# Altium footprint library DIODE.PcbLib: 1 footprints
Each footprint in its own frame and in the unit in brackets; x right, y up, seen from the top. Pads: shape width x height; smd on the part's side, far side on the other; paste and mask are expansions set on the pad; w line width, h text height; cw(c..) or ccw(c..) is an arc to the next point about the centre after c.
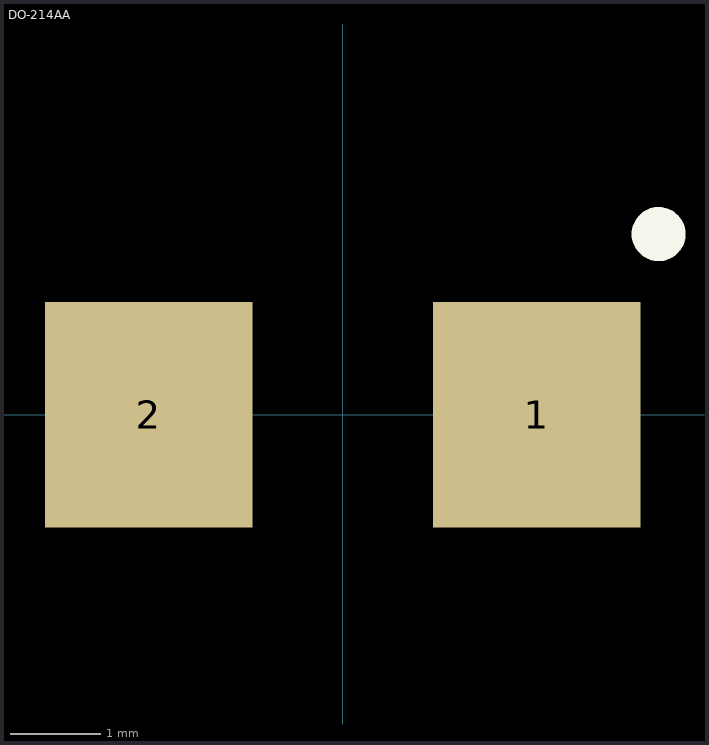
[diagram p0: the footprint, top view; thin cyan lines are the x and y axes]

## DO-214AA [mm] "DO-214AA/SMB Diode Package"
height 2.5
pads (2):
  rect 2.3x2.5 smd: 1(2.15,0) 2(-2.15,0)
Top Overlay:
  circle w0.3: c3.5,2 r0.15
3D body "DO-214AA(SMB).SLDPRT": height 1.2, standoff -1.35, extent -2.774,-1.969 2.774,1.969